# Altium footprint library CONTROLLER-2_BRD2.PcbLib: 38 footprints (part 1 of 3)
Each footprint in its own frame and in the unit in brackets; x right, y up, seen from the top. Pads: shape width x height; smd on the part's side, far side on the other; paste and mask are expansions set on the pad; w line width, h text height; cw(c..) or ccw(c..) is an arc to the next point about the centre after c.
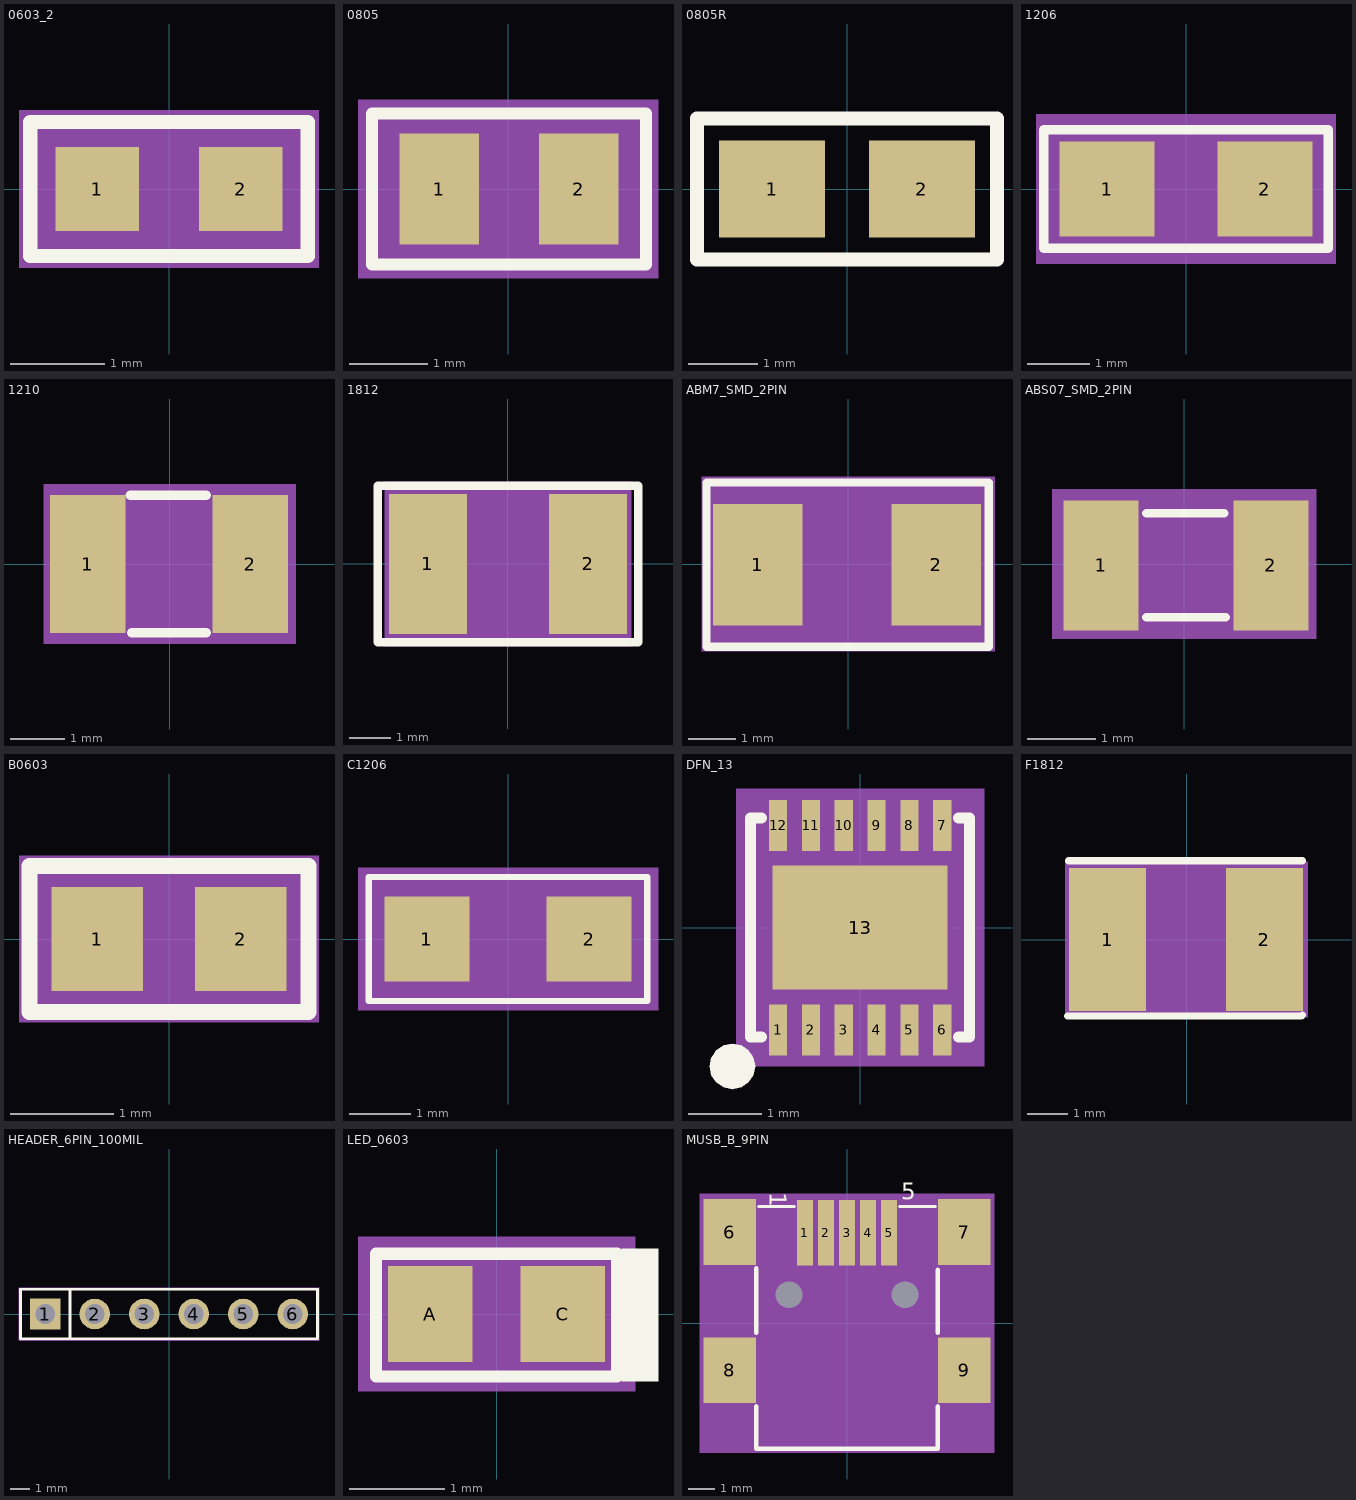
[diagram p0: the footprints below, top view; thin cyan lines are the x and y axes]

## 0603 [mil] "0603"
pads (2):
  rect 35x35 smd: 1(99688.37,99718.37) 2(99748.37,99718.37)
Top Overlay:
  lines w6: 99660.37,99690.37 99660.37,99746.37 99776.37,99746.37 99776.37,99690.37 99660.37,99690.37
  text ".Designator" at 99743.37,99763.37 h25
Mechanical 7:
  region: -102550062.75,-102549967 -102550062.75,-102550033 -102549937.25,-102550033 -102549937.25,-102549967
Mechanical 15:
  text "1" at 99678.37,99718.37 h25
  text "2" at 99738.37,99718.37 h25
Mechanical 16:
  lines w1: 99659.37,99689.37 99777.37,99689.37 99777.37,99747.37 99659.37,99747.37 99659.37,99689.37
3D body: height 150, standoff 0, extent -102550062.75,-102550033 -102549937.25,-102549967

## 0603_2 [mil]
pads (2):
  rect 35x35 smd: 1(-30,0) 2(30,0)
Top Overlay:
  lines w6: -58,-28 -58,28 58,28 58,-28 -58,-28
  text ".Designator" at 70,-15 h25
Mechanical 7:
  region: -62.75,33 -62.75,-33 62.75,-33 62.75,33
Mechanical 15:
  text "1" at -40,0 h25
  text "2" at 20,0 h25
Mechanical 16:
  lines w1: -59,-29 59,-29 59,29 -59,29 -59,-29
3D body: height 150, standoff 0, extent -62.75,-33 62.75,33

## 0805 [mil] "0805"
pads (2):
  rect 40x56 smd: 1(-34.5,0) 2(35.5,0)
Top Overlay:
  lines w6: -68.5,-38 -68.5,38 69.5,38 69.5,-38 -68.5,-38
  text ".Designator" at -62.5,54 h25
Mechanical 7:
  region: -75.5,45 -75.5,-45 75.5,-45 75.5,45
Mechanical 15:
  text "1" at -34.5,10 h25
  text "2" at 35.5,10 h25
Mechanical 16:
  lines w1: -66.5,-36 67.5,-36 67.5,36 -66.5,36 -66.5,-36
3D body: height 150, standoff 0, extent -75.5,-45 75.5,45

## 0805R [mil]
pads (2):
  rect 60x55 smd: 1(-42.5,0) 2(42.5,0)
Top Overlay:
  lines w8: -85,-40 -85,0 -85,40 85,40 85,-40 -85,-40
Mechanical 15:
  lines w5: -85,-40 -85,40 82.2,40 83.6,38.6 83.6,-38.6 85,-40 -85,-40
  text ".Designator" at 37.62,10.26 h32
3D body "User Library-CR2012-0805.STEP": height 23.62, standoff 0, extent -40.67,-24.2 38.07,25.01

## 1206 [mil] "1206"
pads (2):
  rect 60x60 smd: 1(-50,0) 2(50,0)
Top Overlay:
  lines w6: -90,-37.5 90,-37.5 90,37.5 -90,37.5 -90,-37.5
  text ".Designator" at -112.5,20.33 h25
Mechanical 7:
  region: -95,47.5 95,47.5 95,-47.5 -95,-47.5
Mechanical 15:
  text "1" at -34,0 h25
  text "2" at 66,0 h25
Mechanical 16:
  lines w1: -90,-35 90,-35 90,40 -90,40 -90,-35
3D body: height 150, standoff 0, extent -95,-47.5 95,47.5

## 1210 [mil] "1210"
pads (2):
  rect 55x100 smd: 1(-59.5,0) 2(58.5,0)
Top Overlay:
  lines w7: -28.5,50 26.5,50 ; -27.5,-50 26.5,-50
  text ".Designator" at 124.5,-40 h25
Mechanical 7:
  region: -91.5,58 -91.5,-58 91.5,-58 91.5,58
Mechanical 15:
  text "2" at 58.5,-10 h25
  text "1" at -59.5,-10 h25
Mechanical 16:
  lines w1: -60.5,-50 59.5,-50 59.5,50 -60.5,50 -60.5,-50
3D body: height 150, standoff 0, extent -91.5,-58 91.5,58

## 1812 [mil] "1812"
pads (2):
  rect 75x134 smd: 1(-76.8,0) 2(76.8,0)
Top Overlay:
  lines w8: -125,-75 125,-75 125,75 -125,75 -125,-75
  text ".Designator" at -5,92.8 h25
Mechanical 7:
  region: -118.1,-78.7 118.1,-78.7 118.1,78.7 -118.1,78.7
Top Component Center:
  lines w1: -6,0 6,0 ; 0,-6 0,6
Mechanical 15:
  text "1" at -76.8,-10 h25
  text "2" at 76.8,-10 h25
Mechanical 16:
  lines w1: -94.5,-66.9 94.5,-66.9 94.5,66.9 -94.5,66.9 -94.5,-66.9
3D body: height 150, standoff 0, extent -118.1,-78.7 118.1,78.7

## ABM7_SMD_2PIN [mil] "ABM7_SMD_2PIN"
pads (2):
  rect 75x102 smd: 1(-76,-0.5) 2(74,-0.5)
Top Overlay:
  lines w7: -119,-69.5 118,-69.5 118,68.5 -119,68.5 -119,-69.5
  text ".Designator" at -43,84.17 h25
Mechanical 7:
  region: -123,-73.5 123,-73.5 123,73.5 -123,73.5
Mechanical 15:
  text "2" at 74,9.5 h25
  text "1" at -76,9.5 h25
Mechanical 16:
  lines w1: -119,-69.5 117,-69.5 117,68.5 -119,68.5 -119,-69.5
3D body: height 150, standoff 0, extent -123,-73.5 123,73.5

## ABS07_SMD_2PIN [mil] "ABS07_SMD_2PIN"
pads (2):
  rect 43x75 smd: 1(-48,-0.75) 2(50,-0.75)
Top Overlay:
  lines w5: -22,-30.75 24,-30.75 ; -22,29.25 23,29.25
  text ".Designator" at 99,-21.08 h25
Mechanical 7:
  region: -76,-43.25 76,-43.25 76,43.25 -76,43.25
Mechanical 15:
  text "1" at -48,9.25 h25
  text "2" at 50,9.25 h25
Mechanical 16:
  lines w1: -62,-30.25 64,-30.25 64,28.75 -62,28.75 -62,-30.25
3D body: height 150, standoff 0, extent -76,-43.25 76,43.25

## B0603 [mil] "B0603"
pads (2):
  rect 35x40 smd: 1(-27.5,0) 2(27.5,0)
Top Overlay:
  lines w6: -53.5,-28 -53.5,28 53.5,28 53.5,-28 -53.5,-28
  text ".Designator" at 68,-5.33 h25
Mechanical 7:
  region: -57.5,32 -57.5,-32 57.5,-32 57.5,32
Mechanical 15:
  text "1" at -43.5,0 h25
  text "2" at 11.5,0 h25
Mechanical 16:
  lines w1: -53.5,-28 53.5,-28 53.5,28 -53.5,28 -53.5,-28
3D body: height 150, standoff 0, extent -57.5,-32 57.5,32

## C1206 [mil] "C1206"
pads (2):
  rect 55x55 smd: 1(-52.5,0) 2(52.5,0)
Top Overlay:
  lines w4: -90,-40 -90,40 90,40 90,-40 -90,-40
Mechanical 7:
  region: -97,-46 97,-46 97,46 -97,46
Mechanical 15:
  text "1" at -52.5,-10 h25
  text "2" at 52.5,-10 h25
Mechanical 16:
  lines w4: -60,-30 -60,30 60,30 60,-30 -60,-30
  text ".Designator" at 5,-34.27 h25
3D body: height 150, standoff 0, extent -97,-46 97,46

## DFN_13 [mm] "DFN_13"
pads (13):
  rect 0.25x0.7 smd: 1(-1.125,-1.4) 2(-0.675,-1.4) 3(-0.225,-1.4) 4(0.225,-1.4) 5(0.675,-1.4) 6(1.125,-1.4) 7(1.125,1.4) 8(0.675,1.4) 9(0.225,1.4) 10(-0.225,1.4) 11(-0.675,1.4) 12(-1.125,1.4)
  rect 2.4x1.7 smd: 13(0,0)
Top Overlay:
  dashed: -1.75,-2.21 -1.631,-2.186 -1.531,-2.119 -1.464,-2.019 -1.44,-1.9 -1.464,-1.781 -1.486,-1.748 -1.531,-1.681 -1.631,-1.614 -1.75,-1.59 -1.869,-1.614 -1.969,-1.681 -2.014,-1.748 -2.036,-1.781 -2.06,-1.9 -2.036,-2.019 -1.969,-2.119 -1.869,-2.186
  lines w0.15: -1.35,-1.5 -1.5,-1.5 -1.5,1.5 -1.35,1.5 ; 1.35,-1.5 1.5,-1.5 1.5,1.5 1.35,1.5
Mechanical 7:
  region: -1.7,1.9 -1.7,-1.9 1.7,-1.9 1.7,1.9
Mechanical 15:
  text "6" at 1.125,-0.892 h0.64
  text "2" at -0.675,-0.892 h0.64
  text "3" at -0.225,-0.892 h0.64
  text "9" at 0.225,1.908 h0.64
  text "7" at 1.125,1.908 h0.64
  text "10" at -0.225,2.416 h0.64
  text "1" at -1.125,-1.146 h0.64
  text "4" at 0.225,-0.892 h0.64
  text "12" at -1.125,2.416 h0.64
  text "13" at 0,0.508 h0.64
  text "5" at 0.675,-0.892 h0.64
  text "8" at 0.675,1.908 h0.64
  text "11" at -0.675,2.416 h0.64
Mechanical 16:
  dashed: -1.1,-1.468 -0.959,-1.44 -0.84,-1.36 -0.76,-1.241 -0.732,-1.1 -0.76,-0.959 -0.787,-0.919 -0.84,-0.84 -0.959,-0.76 -1.1,-0.732 -1.241,-0.76 -1.36,-0.84 -1.413,-0.919 -1.44,-0.959 -1.468,-1.1 -1.44,-1.241 -1.36,-1.36 -1.241,-1.44
  lines w0.025: -1.5,-1.5 1.5,-1.5 1.5,1.5 -1.5,1.5 -1.5,-1.5
  text ".Designator" at -1.05,-0.55 h0.64
3D body: height 3.81, standoff 0, extent -1.7,-1.9 1.7,1.9

## F1812 [mil] "F1812"
pads (2):
  rect 75x140 smd: 1(-77.27,0) 2(76.27,0)
Top Overlay:
  lines w7: -116.5,-75 112.5,-75 113.5,-74 ; -115.5,77 113.5,77
  text ".Designator" at 64.8,-104.67 h25
Mechanical 7:
  region: -118.5,-76 118.5,-76 118.5,76 -118.5,76
Top Component Center:
  lines w1: -6.5,0 5.5,0 ; -0.5,-6 -0.5,6
Mechanical 15:
  text "2" at 88.67,0 h25
  text "1" at -64.87,0 h25
Mechanical 16:
  lines w1: -95.5,-72.5 94.5,-72.5 94.5,72.5 -95.5,72.5 -95.5,-72.5
3D body: height 150, standoff 0, extent -118.5,-76 118.5,76

## HEADER_6PIN_100MIL [mil] "HEADER_6PIN_100MIL"
pads (6):
  rect 62x62 / inner round 62 / far side rect 62x62 hole 40: 1(-250,0)
  round 62 hole 40: 2(-150,0) 3(-50,0) 4(50,0) 5(150,0) 6(250,0)
Top Overlay:
  lines w6: -200,-50 -200,50 ; -300,-50 300,-50 300,50 -300,50 -300,-50
  text ".Designator" at -62.5,84.67 h25
Mechanical 7:
  lines w1: -303,-53 303,-53 303,53 -303,53 -303,-53
Mechanical 15:
  text "5" at 134,0 h25
  text "1" at -266,0 h25
  text "4" at 34,0 h25
  text "3" at -66,0 h25
  text "2" at -166,0 h25
  text "6" at 234,0 h25
Mechanical 16:
  lines w1: -200,-50 -200,50 ; -300,-50 300,-50 300,50 -300,50 -300,-50

## LED_0603 [mil] "LED_0603"
pads (2):
  rect 35x40 smd: A(-27.5,0) C(27.5,0)
Top Overlay:
  dashed: 52,27 52,-28 67,-28 67,27
  lines w5: -50,-26 50,-26 50,25 -50,25 -50,-26
  text ".Designator" at -32.5,39 h25
Mechanical 7:
  region: -57.5,32 -57.5,-32 57.5,-32 57.5,32
Mechanical 15:
  text "C" at 27,-3 h25
  text "A" at -31,-2 h25
Mechanical 16:
  dashed: 31.5,15 31.5,-15 50.5,-15 50.5,15
  lines w1: -31.5,-15.5 31.5,-15.5 31.5,15.5 -31.5,15.5 -31.5,-15.5
3D body: height 150, standoff 0, extent -57.5,-32 57.5,32

## MUSB_B_9PIN [mm] "MUSB_B_9PIN"
pads (11):
  rect 0.6x2.5 smd: 1(-1.6,3.431) 2(-0.8,3.431) 3(0,3.431) 4(0.8,3.431) 5(1.6,3.431)
  rect 2x2.5 smd: 6(-4.45,3.456) 7(4.45,3.456) 8(-4.45,-1.794) 9(4.45,-1.794)
  round 0.85 hole 1.016 unplated: ""(-2.2,1.076) ""(2.2,1.076)
Top Overlay:
  lines w0.127: -3.35,4.431 -2,4.431 ; 2,4.431 3.35,4.431
  lines w0.175: -3.45,-3.169 -3.45,-4.769 3.45,-4.769 3.45,-3.169 ; -3.45,-0.369 -3.45,2.081 ; 3.45,-0.369 3.45,2.031
  text "5" at 2.058,4.688 h0.64
  text "1" at -2.929,4.972 h0.64
Mechanical 7:
  region: -5.6,-4.919 -5.6,4.919 5.6,4.919 5.6,-4.919
Mechanical 15:
  text "3" at 0,3.838 h0.64
  text "2" at -0.8,3.838 h0.64
  text "1" at -1.6,3.838 h0.64
  text "7" at 4.45,3.863 h0.64
  text "9" at 4.45,-1.387 h0.64
  text "8" at -4.45,-1.387 h0.64
  text "6" at -4.45,3.863 h0.64
  text "5" at 1.6,3.838 h0.64
  text "4" at 0.8,3.838 h0.64
Mechanical 16:
  lines w0.025: -3.45,-4.774 3.45,-4.774 3.45,4.426 -3.45,4.426 -3.45,-4.774
  text "1" at -2.8,3.006 h0.64
  text ".Designator" at -0.381,0.362 h0.64
3D body: height 3.81, standoff 0, extent -5.6,-4.919 5.6,4.919